# Altium schematic symbol library Connector_clamp_x3.SCHLIB: 1 symbol
Pins are listed as number, name and electrical type; pins without a type are passive.

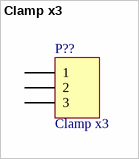
[diagram p0: symbol Clamp x3]

## Clamp x3
designator P??
LatestRevisionDate: 17-Jul-2002; LatestRevisionNote: Re-released for DXP Platform.; Publisher: Altium Limited
footprint Connector x3 clamps
pins: 1, 2, 3